# Altium footprint library PCB - DIODES - LUMINUS MP-3030-220.PCBLIB: 1 footprints
Each footprint in its own frame and in the unit in brackets; x right, y up, seen from the top. Pads: shape width x height; smd on the part's side, far side on the other; paste and mask are expansions set on the pad; w line width, h text height; cw(c..) or ccw(c..) is an arc to the next point about the centre after c.
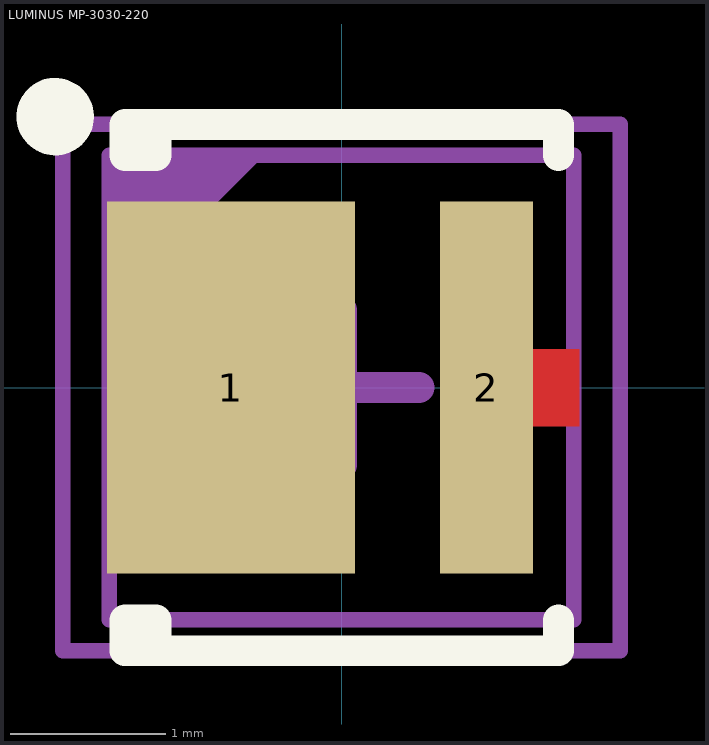
[diagram p0: the footprint, top view; thin cyan lines are the x and y axes]

## LUMINUS MP-3030-220 [mm]
height 0.7
pads (2):
  rect 1.6x2.4 smd paste-0.5: 1(-0.715,0)
  rect 0.6x2.4 smd paste-0.25: 2(0.935,0)
Top Layer:
  rectangle: 1.185,-0.25 1.535,0.25
Top Overlay:
  circle w0.25: c-1.85,1.75 r0.125
  lines w0.2: 1.4,-1.5 1.4,-1.7 -1.2,-1.7 ; 1.4,1.5 1.4,1.7 -1.2,1.7 ; -1.2,-1.7 -1.3,-1.7 -1.4,-1.7 -1.4,-1.5 -1.2,-1.5 -1.2,-1.7 ; -1.2,1.7 -1.3,1.7 -1.4,1.7 -1.4,1.5 -1.2,1.5 -1.2,1.7
Top Paste:
  rectangle: 0.725,-0.95 1.125,0.95
  rectangle: -1.375,-0.95 -0.075,0.95
  region: -1.375,1
Mechanical 13:
  region: -1.5,0.5 -0.5,1.5 -1.5,1.5
  lines w0.1: -1.5,-1.5 1.5,-1.5 1.5,1.5 -1.5,1.5 -1.5,-1.5
Mechanical 15:
  lines w0.1: -1.8,-1.7 1.8,-1.7 1.8,1.7 -1.8,1.7 -1.8,-1.7
  lines w0.2: -0.5,0 0.5,0 ; 0,-0.5 0,0.5
3D body: height 0.7, standoff -0.01, extent -1.51,-1.51 1.51,1.51